# Altium schematic symbol library TSSOP28.SchLib: 2 symbols
Pins are listed as number, name and electrical type; pins without a type are passive.

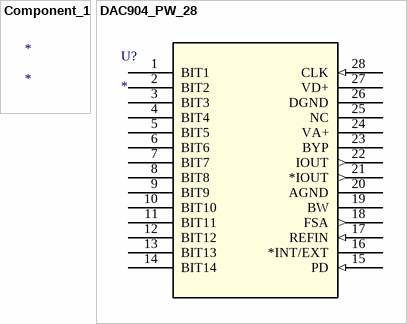
[diagram p0: symbols Component_1 to DAC904_PW_28]

## Component_1
designator *

## DAC904_PW_28
designator U?
Imported; Manufacturer: Texas Instruments; GENERIC_PART_NUMBER: DAC904; Manufacturer_Part_Number: dac904_pw_28; INDUSTRY_STD_PKG_TYPE: TSSOP; FAMILY_NAME: HIGH SPEED DAC (>10MSPS); PIN_COUNT: 28; PACKAGE_DESIGNATOR: PW; Datasheet_URL: http://www.ti.com/lit/gpn/DAC904; Vendor: Texas Instruments; Value: Value; Type: Type; RefDes: RefDes
footprint PW28
pins: 1 BIT1, 2 BIT2, 3 BIT3, 4 BIT4, 5 BIT5, 6 BIT6, 7 BIT7, 8 BIT8, 9 BIT9, 10 BIT10, 11 BIT11, 12 BIT12, 13 BIT13, 14 BIT14, 15 PD (in), 16 *INT/EXT, 17 REFIN (in), 18 FSA (out), 19 BW, 20 AGND (power), 21 *IOUT (out), 22 IOUT (out), 23 BYP, 24 VA+ (power), 25 NC, 26 DGND (power), 27 VD+ (power), 28 CLK (in)